# Altium footprint library 10108877-R10253SLF.PcbLib: 1 footprints
Each footprint in its own frame and in the unit in brackets; x right, y up, seen from the top. Pads: shape width x height; smd on the part's side, far side on the other; paste and mask are expansions set on the pad; w line width, h text height; cw(c..) or ccw(c..) is an arc to the next point about the centre after c.
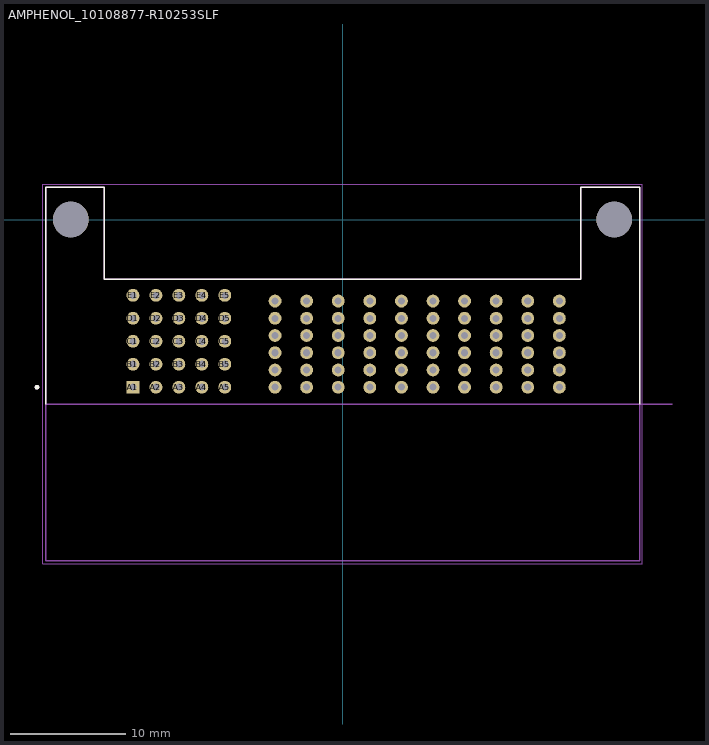
[diagram p0: the footprint, top view; thin cyan lines are the x and y axes]

## AMPHENOL_10108877-R10253SLF [mm]
pads (87):
  round 1.118 hole 0.61: 1_1(-5.875,-14.6) 1_2(-5.875,-13.1) 1_3(-5.875,-11.6) 1_4(-5.875,-10.1) 1_5(-5.875,-8.6) 1_6(-5.875,-7.1) 2_1(-3.125,-14.6) 2_2(-3.125,-13.1) 2_3(-3.125,-11.6) 2_4(-3.125,-10.1) 2_5(-3.125,-8.6) 2_6(-3.125,-7.1) 3_1(-0.375,-14.6) 3_2(-0.375,-13.1) 3_3(-0.375,-11.6) 3_4(-0.375,-10.1) 3_5(-0.375,-8.6) 3_6(-0.375,-7.1) 4_1(2.375,-14.6) 4_2(2.375,-13.1) 4_3(2.375,-11.6) 4_4(2.375,-10.1) 4_5(2.375,-8.6) 4_6(2.375,-7.1) 5_1(5.125,-14.6) 5_2(5.125,-13.1) 5_3(5.125,-11.6) 5_4(5.125,-10.1) 5_5(5.125,-8.6) 5_6(5.125,-7.1) 6_1(7.875,-14.6) 6_2(7.875,-13.1) 6_3(7.875,-11.6) 6_4(7.875,-10.1) 6_5(7.875,-8.6) 6_6(7.875,-7.1) 7_1(10.625,-14.6) 7_2(10.625,-13.1) 7_3(10.625,-11.6) 7_4(10.625,-10.1) 7_5(10.625,-8.6) 7_6(10.625,-7.1) 8_1(13.375,-14.6) 8_2(13.375,-13.1) 8_3(13.375,-11.6) 8_4(13.375,-10.1) 8_5(13.375,-8.6) 8_6(13.375,-7.1) 9_1(16.125,-14.6) 9_2(16.125,-13.1) 9_3(16.125,-11.6) 9_4(16.125,-10.1) 9_5(16.125,-8.6) 9_6(16.125,-7.1) 10_1(18.875,-14.6) 10_2(18.875,-13.1) 10_3(18.875,-11.6) 10_4(18.875,-10.1) 10_5(18.875,-8.6) 10_6(18.875,-7.1) A2(-16.25,-14.6) A3(-14.25,-14.6) A4(-12.25,-14.6) A5(-10.25,-14.6) B1(-18.25,-12.6) B2(-16.25,-12.6) B3(-14.25,-12.6) B4(-12.25,-12.6) B5(-10.25,-12.6) C1(-18.25,-10.6) C2(-16.25,-10.6) C3(-14.25,-10.6) C4(-12.25,-10.6) C5(-10.25,-10.6) D1(-18.25,-8.6) D2(-16.25,-8.6) D3(-14.25,-8.6) D4(-12.25,-8.6) D5(-10.25,-8.6) E1(-18.25,-6.6) E2(-16.25,-6.6) E3(-14.25,-6.6) E4(-12.25,-6.6) E5(-10.25,-6.6)
  rect 1.118x1.118 hole 0.61: A1(-18.25,-14.6)
  round 3.1 hole 3.1 unplated: ""(-23.655,0) ""(23.655,0)
Top Overlay:
  circle w0.2: c-26.605,-14.6 r0.1
  lines w0.127: -25.855,-16.1 -25.855,2.8 -20.75,2.8 -20.75,-5.21 20.75,-5.21 20.75,2.8 25.855,2.8 25.855,-16.1
Mechanical 13:
  circle w0.2: c-26.605,-14.6 r0.1
  lines w0.127: 28.7,-16.1 -25.855,-16.1 ; -25.855,-16.1 -25.855,2.8 -20.75,2.8 -20.75,-5.21 20.75,-5.21 20.75,2.8 25.855,2.8 25.855,-29.7 -25.855,-29.7 -25.855,-16.1
  text "PCB Edge" at 26.37,-15.74 h0.81
Mechanical 15:
  lines w0.05: -26.105,-29.95 -26.105,3.05 26.105,3.05 26.105,-29.95 -26.105,-29.95
3D body "step_temp.STEP": height 9, standoff -5, extent -25.908,-29.706 25.802,2.794